# Altium footprint library Marks-Logos.PcbLib: 5 footprints
Each footprint in its own frame and in the unit in brackets; x right, y up, seen from the top. Pads: shape width x height; smd on the part's side, far side on the other; paste and mask are expansions set on the pad; w line width, h text height; cw(c..) or ccw(c..) is an arc to the next point about the centre after c.
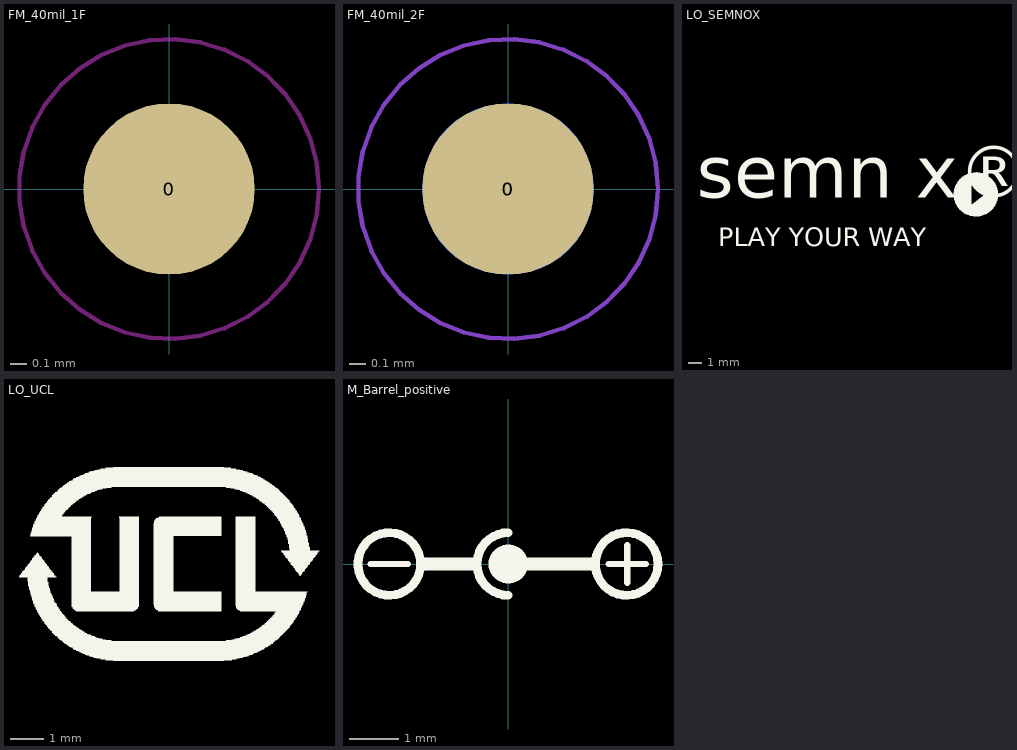
[diagram p0: the footprints below, top view; thin cyan lines are the x and y axes]

## FM_40mil_1F [mil] "20191023/V-A.Patino"
pads (1):
  round 40 smd paste-100 mask+20: 0(0,0)
Top Layer keep-out:
  circle w1: c0,0 r35

## FM_40mil_2F [mil]
pads (2):
  round 40 smd paste-100 mask+20: 0(0,0)
  round 40 smd far side paste-100 mask+20: 0(0,0)
Top Layer keep-out:
  circle w1: c0,0 r35
Bottom Layer keep-out:
  circle w1: c0,0 r35

## LO_SEMNOX [mil] "/20191028/C-A.Serna.A"
Top Overlay:
  circle w6.46: c50315.73,50012.07 r61.49
  lines w6.46: 50257.56,49995.92 50299.57,49995.92 ; 50257.56,50002.38 50299.57,50002.38 ; 50257.56,50008.84 50299.57,50008.84 ; 50257.56,50012.07 50299.57,50012.07 ; 50257.56,50018.54 50299.57,50018.54 ; 50257.56,50025 50299.57,50025 ; 50257.56,50031.46 50299.57,50031.46 ; 50260.79,49989.45 50299.57,49989.45 ; 50260.79,50037.93 50299.57,50037.93 ; 50264.03,49982.99 50299.57,49982.99 ; 50264.03,50044.39 50367.44,50044.39 ; 50267.26,49976.53 50364.21,49976.53 ; 50270.49,50050.85 50360.97,50050.85 ; 50273.72,49973.29 50360.97,49973.29 ; 50273.72,50054.08 50357.74,50054.08 ; 50276.95,49970.06 50354.51,49970.06 ; 50276.95,50057.32 50354.51,50057.32 ; 50280.18,49966.83 50351.28,49966.83 ; 50280.18,50060.55 50348.05,50060.55 ; 50283.42,49963.6 50348.05,49963.6 ; 50289.88,49960.37 50344.82,49960.37 ; 50289.88,50063.78 50341.58,50063.78 ; 50296.34,49957.14 50335.12,49957.14 ; 50296.34,50067.01 50335.12,50067.01 ; 50309.27,49982.99 50364.21,49982.99 ; 50312.5,50037.93 50370.67,50037.93 ; 50315.73,49986.22 50370.67,49986.22 ; 50318.96,49989.45 50367.44,49989.45 ; 50318.96,50034.69 50370.67,50034.69 ; 50322.19,49992.68 50370.67,49992.68 ; 50322.19,50031.46 50373.9,50031.46 ; 50325.43,49995.92 50373.9,49995.92 ; 50328.66,50028.23 50373.9,50028.23 ; 50331.89,49999.15 50373.9,49999.15 ; 50335.12,50002.38 50373.9,50002.38 ; 50335.12,50025 50373.9,50025 ; 50338.35,50005.61 50373.9,50005.61 ; 50338.35,50021.77 50373.9,50021.77 ; 50341.58,50018.54 50373.9,50018.54 ; 50344.82,50008.84 50373.9,50008.84 ; 50348.05,50015.31 50373.9,50015.31 ; 50300.22,49977.17 50300.22,50044.39 50348.69,50014.01 50300.22,49977.17
  text "PLAY YOUR WAY" at 49566.7,49842.73 h92
  text "semn x®" at 49504.61,49953.04 h260

## LO_UCL [mil] "/20191028/C-A.Serna.A"
Top Overlay:
  drawing of 3 lines, arcs and shapes, not listed

## M_Barrel_positive [mm] "M_Barrel_positive/20191003/N-A.Potosi"
pads (1):
  round 0.8 on Top Overlay: ""(0,0)
Top Overlay:
  circle w0.178: c2.402,0 r0.635
  circle w0.178: c-2.413,0 r0.635
  lines w0.127: -2.794,0 -2.032,0 ; 2.032,0 2.794,0 ; 2.413,-0.381 2.413,0.381
  lines w0.178: 0,-0.635 cw(c0,0) 0,0.635
  lines w0.254: -1.697,0 -0.673,0 ; 0,0 1.727,0